# EAGLE library part SPI-HEADER (library 0_Library-Rev2)
AVR ISP 6 Pin This is the reduced ISP connector for AVR programming. Common on Arduino. This footprint will take up less PCB space and can be used with a 10-pin to 6-pin adapter such as SKU: BOB-08508 **Special note about "TEST_POINT" package. The stop mask is on the top side, so if you want your programming test points to be on the bottom of your board, make sure to place this package on the bottom side of the board. This also ensure that the orientation to program from the bottom side will be correct. SparkFun Products: SparkFun ISP Pogo Adapter <https://www.sparkfun.com/products/11591> - NS Tiny AVR Programmer <https://www.sparkfun.com/products/11801> -PTH
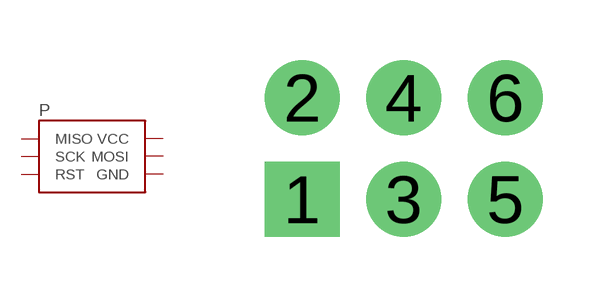
[diagram p5: symbol with the pads of 2X3-NS; footprint 2X3-NS]

Designator prefix P

## SPI-HEADERNS  [2X3-NS]
1  MISO  pas
2  VCC  pas
3  SCK  pas
4  MOSI  pas
5  RST  pas
6  GND  pas

## Footprint 2X3-NS (pad centres in mm)
Plated Through Hole - 2x3 No Silk Outline Specifications: Pin count:6 Pin pitch:0.1" Example device(s): CONN_03x2
drill 1.016 pad 1.88 square: 1 -2.54,-1.27
drill 1.016 pad 1.88: 2 -2.54,1.27; 3 0,-1.27; 4 0,1.27; 5 2.54,-1.27; 6 2.54,1.27